# EAGLE library part DMC4050SSDQ (library SeguidorLineasLbr)
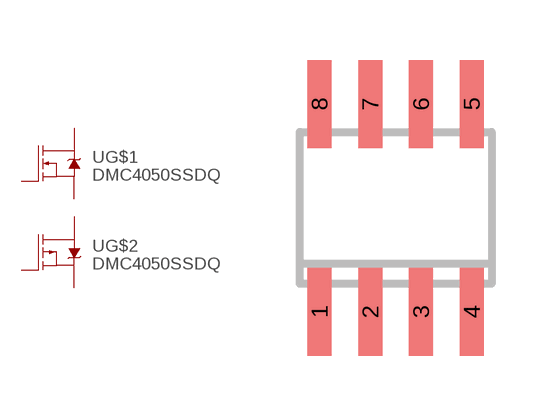
[diagram p0: symbol with the pads of SO08; footprint SO08]

Designator prefix -; gates G$1=LABELED-NMOS G$2=LABELED-PMOS

## DMC4050SSDQ  [SO08]
1  G$1:S
2  G$1:G
3  G$2:S
4  G$2:G
5  G$2:D
6  G$2:D
7  G$1:D
8  G$1:D

## Footprint SO08 (pad centres in mm)
SMALL OUTLINE INTEGRATED CIRCUIT body 3.9 mm/JEDEC MS-012AA
smd 0.6 x 2.2: 1 -1.905,-2.6; 2 -0.635,-2.6; 3 0.635,-2.6; 4 1.905,-2.6; 5 1.905,2.6; 6 0.635,2.6; 7 -0.635,2.6; 8 -1.905,2.6